# Altium footprint library Conn_Molex_73391-0070_eec_0.PcbLib: 1 footprints
Each footprint in its own frame and in the unit in brackets; x right, y up, seen from the top. Pads: shape width x height; smd on the part's side, far side on the other; paste and mask are expansions set on the pad; w line width, h text height; cw(c..) or ccw(c..) is an arc to the next point about the centre after c.
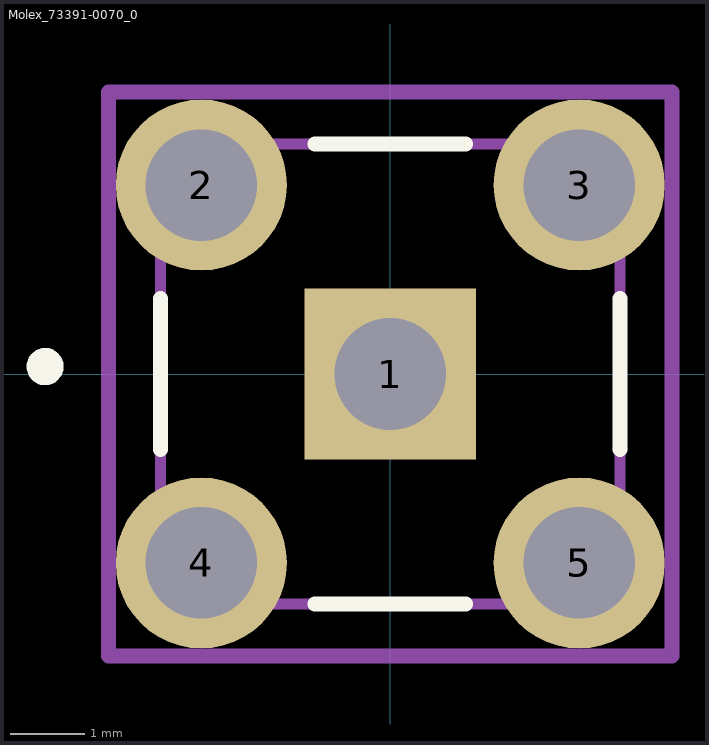
[diagram p0: the footprint, top view; thin cyan lines are the x and y axes]

## Molex_73391-0070_0 [mm]
pads (5):
  rect 2.3x2.3 hole 1.5 paste-1000 mask+0: 1(0,0)
  round 2.3 hole 1.5 paste-1000 mask+0: 2(-2.54,2.54) 3(2.54,2.54) 4(-2.54,-2.54) 5(2.54,-2.54)
Top Overlay:
  circle w0.25: c-4.64,0.1 r0.125
  lines w0.2: -3.09,-1.015 -3.09,1.015 ; -1.015,-3.09 1.015,-3.09 ; -1.015,3.09 1.015,3.09 ; 3.09,-1.015 3.09,1.015
Mechanical 10:
  lines w0.2: -3.79,-3.79 -3.79,3.79 3.79,3.79 3.79,-3.79 -3.79,-3.79
  text ".Designator" at 0,0 h1
Mechanical 12:
  lines w0.15: -3.09,-3.09 -3.09,3.09 3.09,3.09 3.09,-3.09 -3.09,-3.09
Mechanical 15:
  lines w0.1: -0.5,0 0.5,0 ; 0,-0.5 0,0.5
  lines w0.2: -3.79,-3.79 -3.79,3.79 3.79,3.79 3.79,-3.79 -3.79,-3.79